# Altium footprint library Impedance.PcbLib: 2 footprints
Each footprint in its own frame and in the unit in brackets; x right, y up, seen from the top. Pads: shape width x height; smd on the part's side, far side on the other; paste and mask are expansions set on the pad; w line width, h text height; cw(c..) or ccw(c..) is an arc to the next point about the centre after c.
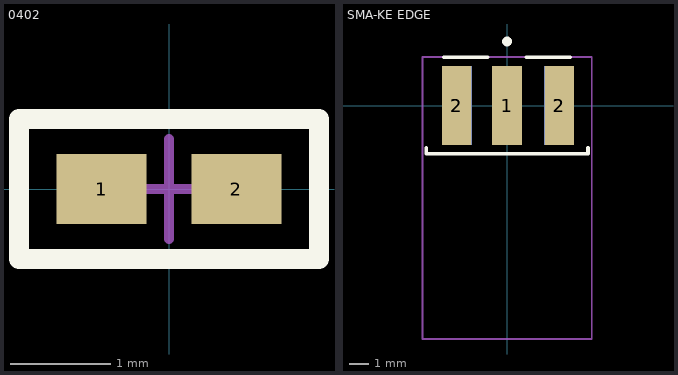
[diagram p0: the footprints below, top view; thin cyan lines are the x and y axes]

## 0402 [mm]
pads (2):
  rect 0.9x0.7 smd: 1(-0.673,0) 2(0.673,0)
Top Overlay:
  lines w0.2: -1.5,-0.7 -1.5,0.7 1.5,0.7 1.5,-0.7 -1.5,-0.7
Mechanical 15:
  lines w0.1: -0.5,0 0.5,0 ; 0,-0.5 0,0.5 ; -1.5,-0.7 -1.5,0.7 1.5,0.7 1.5,-0.7 -1.5,-0.7

## SMA-KE EDGE [mm]
pads (5):
  rect 1.5x4 smd: 1(0,0) 2(-2.54,0) 2(2.64,0)
  rect 1.5x4 smd far side: 2(-2.54,0) 2(2.64,0)
Top Overlay:
  circle w0.25: c0,3.25 r0.125
  lines w0.2: -4.1,-2.15 -4.1,-2.45 4.1,-2.45 4.1,-2.15 ; -3.2,2.45 -1,2.45 ; 1,2.45 3.2,2.45
Mechanical 15:
  lines w0.1: -0.5,-0.05 0.5,-0.05 ; 0,-0.55 0,0.45 ; -4.3,-11.85 4.3,-11.85 4.3,2.45 -4.3,2.45 -4.3,-11.85
3D body "c-l9000267-01-a-3d.stp": height 4.61, standoff -3.31, extent -3.965,-10.25 3.965,1.26